# Altium schematic symbol library U_74HC74.Schlib: 1 symbol
Pins are listed as number, name and electrical type; pins without a type are passive.

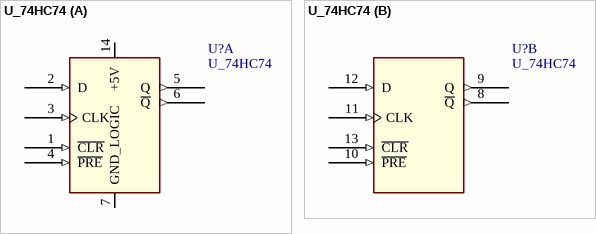
[diagram p0: symbol U_74HC74]

## U_74HC74
designator U?
part A pins: 1 ~{CLR} (in), 2 D (in), 3 CLK (in), 4 ~{PRE} (in), 5 Q (out), 6 ~{Q} (out), 7 GND_LOGIC (power), 14 +5V (power)
part B pins: 8 ~{Q} (out), 9 Q (out), 10 ~{PRE} (in), 11 CLK (in), 12 D (in), 13 ~{CLR} (in)